# EAGLE library part 615006149421L (library Wurth_Elektronik_Electromechanic_Input-Output_Connectors_rev15c)
WR-MJ_Modular Jack_Tab UP_6P6C_Leftt Assembly 6P6C Tab UP_Left Assembly Housing <http://katalog.we-online.de/media/images/eican/Con_WR-MJ_Horizontal_Plastic_6150xx149421_pf2.jpg> Details see: http://katalog.we-online.de/en/em/615_0xx_149_421/615_006_149_421_L?m Created 2014-12-22, aslant tao 2014 (C) Würth Elektronik
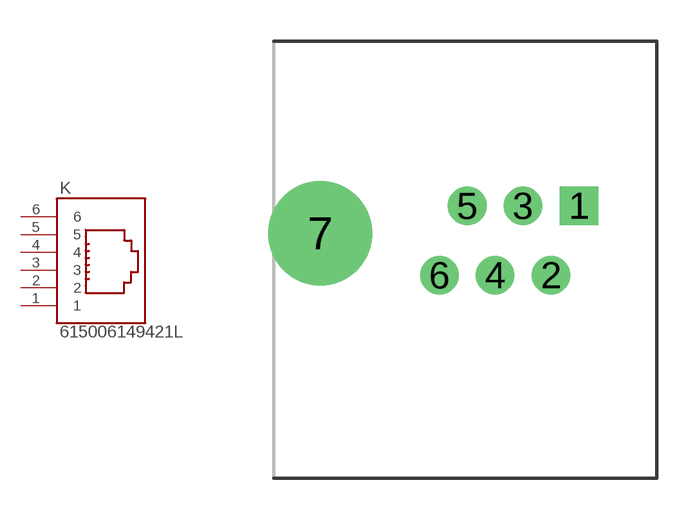
[diagram p166: symbol with the pads of 615006149421L; footprint 615006149421L]

Designator prefix K

## 615006149421L  [615006149421L]
1  1  pas
2  2  pas
3  3  pas
4  4  pas
5  5  pas
6  6  pas

## Footprint 615006149421L (pad centres in mm)
WR-MJ_Modular Jack_Tab UP_6P6C_Leftt Assembly 615006149421L
drill 0.9 pad 1.4 square: 1 0,0
drill 0.9 pad 1.4: 2 -1.02,-2.54; 3 -2.04,0; 4 -3.06,-2.54; 5 -4.08,0; 6 -5.1,-2.54
drill 2.8 pad 3.3: 7 -9.45,-1